# Altium integrated library 100uF_50V_Radial.IntLib: 1 symbol
Pins are listed as number, name and electrical type; pins without a type are passive.

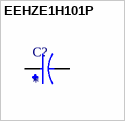
[diagram p0: symbol EEHZE1H101P]

## EEHZE1H101P
designator C?
100F 50V Aluminum - Polymer Capacitors Radial, Can - SMD 28mOhm 2000 Hrs @ 145C; MF: Panasonic Electronic; MP: EEH-ZE1H101P; Price: None; SnapEDA_Link: https://www.snapeda.com/parts/EEH-ZE1H101P/Panasonic%20Electronic%20Components/view-part/2421687/?ref=snap; Availability: In Stock; Value: *; Check_prices: https://www.snapeda.com/parts/EEH-ZE1H101P/Panasonic%20Electronic%20Components/view-part/2421687/?ref=eda; Package: RADIAL-2 Panasonic
footprint CAP_EEHZE1H101P
pins: 1, 2